# EAGLE library part LM6171AIMX/NOPB (library LM6171AIMX_NOPB)
Check availability <https://pricing.snapeda.com/parts/LM6171AIMX/NOPB/Texas%20Instruments/view-part?ref=eda>
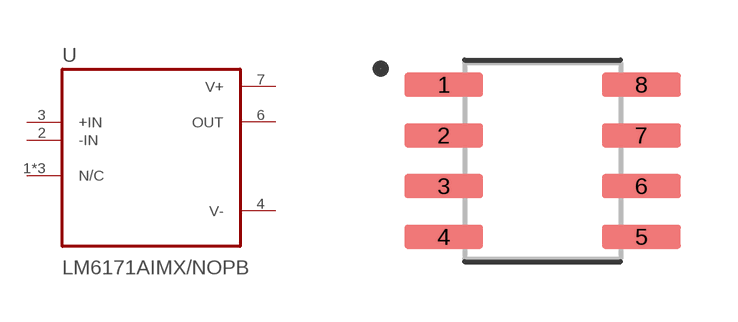
[diagram p0: symbol with the pads of SOIC127P599X175-8N; footprint SOIC127P599X175-8N]

Designator prefix U

## LM6171AIMX/NOPB (AVAILABILITY: In Stock; CHECK_PRICES: https://www.snapeda.com/parts/LM6171AIMX/NOPB/Texas+Instruments/view-part/?ref=eda; DESCRIPTION: High Speed, Low Power, Low Distortion Voltage Feedback Amplifier; MF: Texas Instruments; MP: LM6171AIMX/NOPB; PACKAGE: SOIC-8 Texas Instruments; PRICE: None; SNAPEDA_LINK: https://www.snapeda.com/parts/LM6171AIMX/NOPB/Texas+Instruments/view-part/?ref=snap)  [SOIC127P599X175-8N]
1  N/C
2  -IN  in
3  +IN  in
4  V-  pwr
5  N/C
6  OUT  out
7  V+  pwr
8  N/C

## Footprint SOIC127P599X175-8N (pad centres in mm)
smd 1.97 x 0.6: 1 -2.47,1.905; 2 -2.47,0.635; 3 -2.47,-0.635; 4 -2.47,-1.905; 5 2.47,-1.905; 6 2.47,-0.635; 7 2.47,0.635; 8 2.47,1.905